# EAGLE library part 6N137 (library icmi-leds)
6N137 High Speed (10 MBit/s) Logic Gate Optocoupler
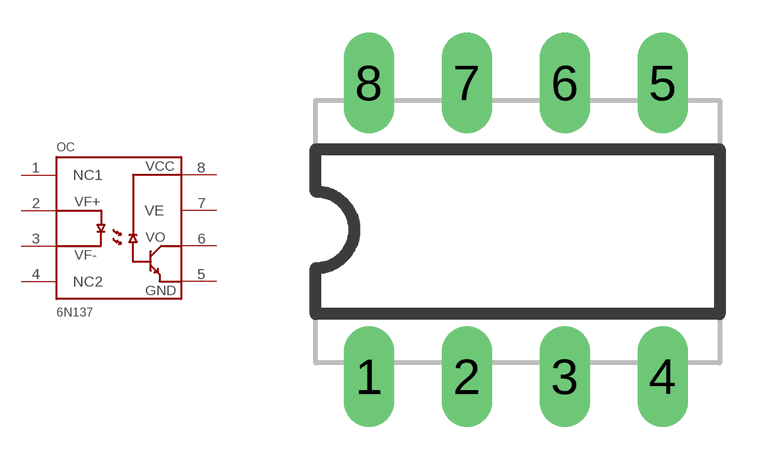
[diagram p2: symbol with the pads of DIP-8; footprint DIP-8]

Designator prefix OC

## 6N137-DIP8  [DIP-8]
1  NC1  nc
2  VF+
3  VF-
4  NC2  nc
5  GND  sup
6  VO
7  VE
8  VCC  sup

## Footprint DIP-8 (pad centres in mm)
DIP-8 throughole package
drill 0.8 long: 1 -3.81,-3.81; 2 -1.27,-3.81; 3 1.27,-3.81; 4 3.81,-3.81; 5 3.81,3.81; 6 1.27,3.81; 7 -1.27,3.81; 8 -3.81,3.81